# Altium footprint library RFID_RC522.PcbLib: 1 footprints
Each footprint in its own frame and in the unit in brackets; x right, y up, seen from the top. Pads: shape width x height; smd on the part's side, far side on the other; paste and mask are expansions set on the pad; w line width, h text height; cw(c..) or ccw(c..) is an arc to the next point about the centre after c.
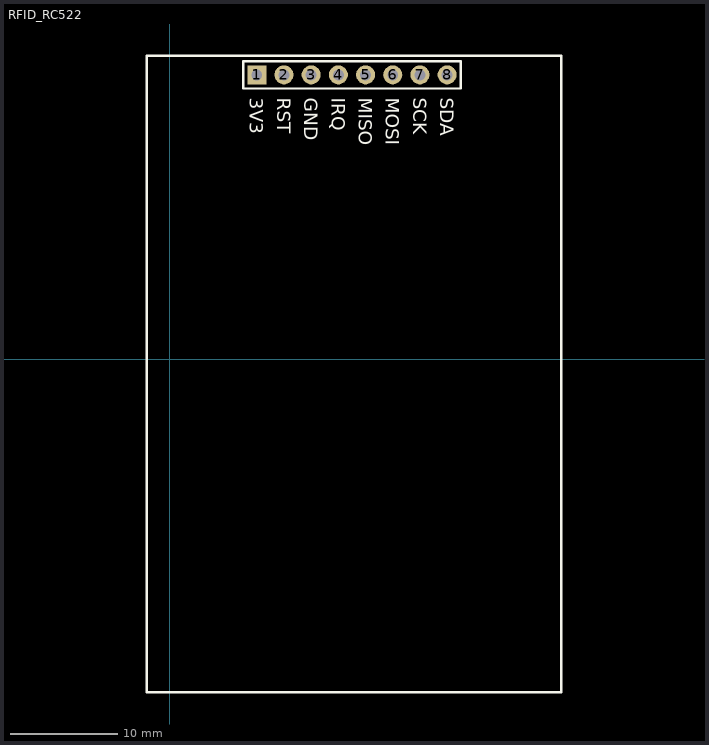
[diagram p0: the footprint, top view; thin cyan lines are the x and y axes]

## RFID_RC522 [mil]
pads (8):
  rect 70x70 hole 40: 1(320,1045)
  round 70 hole 40: 2(420,1045) 3(520,1045) 4(620,1045) 5(720,1045) 6(820,1045) 7(920,1045) 8(1020,1045)
Top Overlay:
  lines w7.87: 270,995 270,1095 1070,1095 1070,995 270,995
  lines w10: -85,-1225 1440,-1225 1440,1115 -85,1115 -85,-1225
  text "SDA" at 995,960 h50
  text "SCK" at 895,960 h50
  text "MOSI" at 795,960 h50
  text "MISO" at 695,960 h50
  text "IRQ" at 595,960 h50
  text "GND" at 495,960 h50
  text "RST" at 395,960 h50
  text "3V3" at 295,960 h50
3D body "PCB - Modulo .step": height 461.17, standoff 140.3, extent -101.57,-1240.91 1451.57,1330.75